# EAGLE library part AT32UC3B0256 (library CEDTv40 (1))
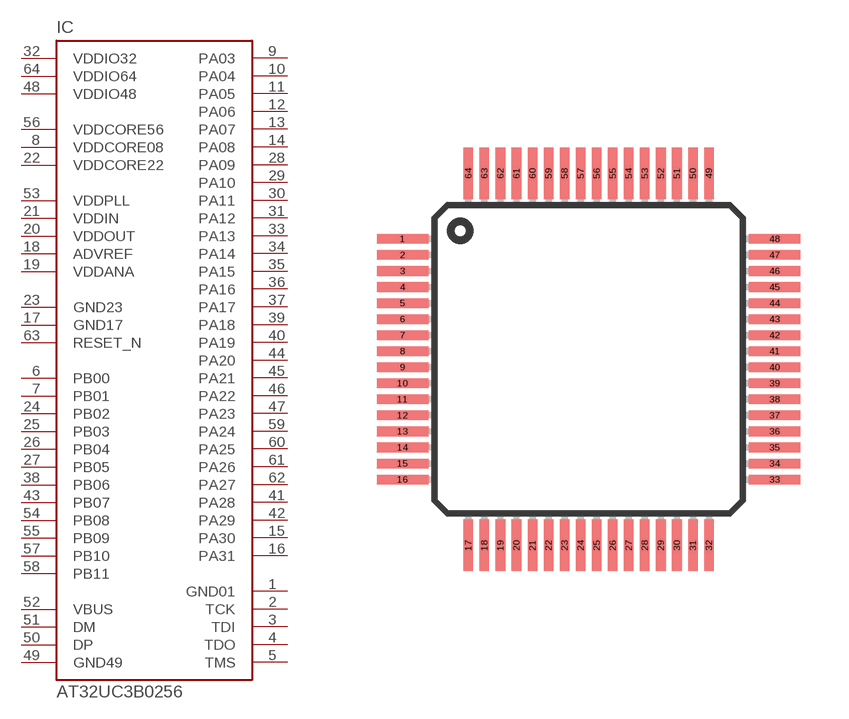
[diagram p20: symbol with the pads of QFP64-0.5MM; footprint QFP64-0.5MM]

Designator prefix IC

## AT32UC3B0256-QFP64  [QFP64-0.5MM]
1  GND01
2  TCK
3  TDI
4  TDO
5  TMS
6  PB00
7  PB01
8  VDDCORE08
9  PA03
10  PA04
11  PA05
12  PA06
13  PA07
14  PA08
15  PA30
16  PA31
17  GND17
18  ADVREF
19  VDDANA
20  VDDOUT
21  VDDIN
22  VDDCORE22
23  GND23
24  PB02
25  PB03
26  PB04
27  PB05
28  PA09
29  PA10
30  PA11
31  PA12
32  VDDIO32
33  PA13
34  PA14
35  PA15
36  PA16
37  PA17
38  PB06
39  PA18
40  PA19
41  PA28
42  PA29
43  PB07
44  PA20
45  PA21
46  PA22
47  PA23
48  VDDIO48
49  GND49
50  DP
51  DM
52  VBUS
53  VDDPLL
54  PB08
55  PB09
56  VDDCORE56
57  PB10
58  PB11
59  PA24
60  PA25
61  PA26
62  PA27
63  RESET_N
64  VDDIO64

## Footprint QFP64-0.5MM (pad centres in mm)
Thin Quad Flat Pack package type TQ
smd 1.6 x 0.3: 1 -5.8,3.75; 2 -5.8,3.25; 3 -5.8,2.75; 4 -5.8,2.25; 5 -5.8,1.75; 6 -5.8,1.25; 7 -5.8,0.75; 8 -5.8,0.25; 9 -5.8,-0.25; 10 -5.8,-0.75; 11 -5.8,-1.25; 12 -5.8,-1.75; 13 -5.8,-2.25; 14 -5.8,-2.75; 15 -5.8,-3.25; 16 -5.8,-3.75; 33 5.8,-3.75; 34 5.8,-3.25; 35 5.8,-2.75; 36 5.8,-2.25; 37 5.8,-1.75; 38 5.8,-1.25; 39 5.8,-0.75; 40 5.8,-0.25; 41 5.8,0.25; 42 5.8,0.75; 43 5.8,1.25; 44 5.8,1.75; 45 5.8,2.25; 46 5.8,2.75; 47 5.8,3.25; 48 5.8,3.75
smd 0.3 x 1.6: 17 -3.75,-5.8; 18 -3.25,-5.8; 19 -2.75,-5.8; 20 -2.25,-5.8; 21 -1.75,-5.8; 22 -1.25,-5.8; 23 -0.75,-5.8; 24 -0.25,-5.8; 25 0.25,-5.8; 26 0.75,-5.8; 27 1.25,-5.8; 28 1.75,-5.8; 29 2.25,-5.8; 30 2.75,-5.8; 31 3.25,-5.8; 32 3.75,-5.8; 49 3.75,5.8; 50 3.25,5.8; 51 2.75,5.8; 52 2.25,5.8; 53 1.75,5.8; 54 1.25,5.8; 55 0.75,5.8; 56 0.25,5.8; 57 -0.25,5.8; 58 -0.75,5.8; 59 -1.25,5.8; 60 -1.75,5.8; 61 -2.25,5.8; 62 -2.75,5.8; 63 -3.25,5.8; 64 -3.75,5.8